# Altium footprint library MX1.25.PcbLib: 3 footprints
Each footprint in its own frame and in the unit in brackets; x right, y up, seen from the top. Pads: shape width x height; smd on the part's side, far side on the other; paste and mask are expansions set on the pad; w line width, h text height; cw(c..) or ccw(c..) is an arc to the next point about the centre after c.
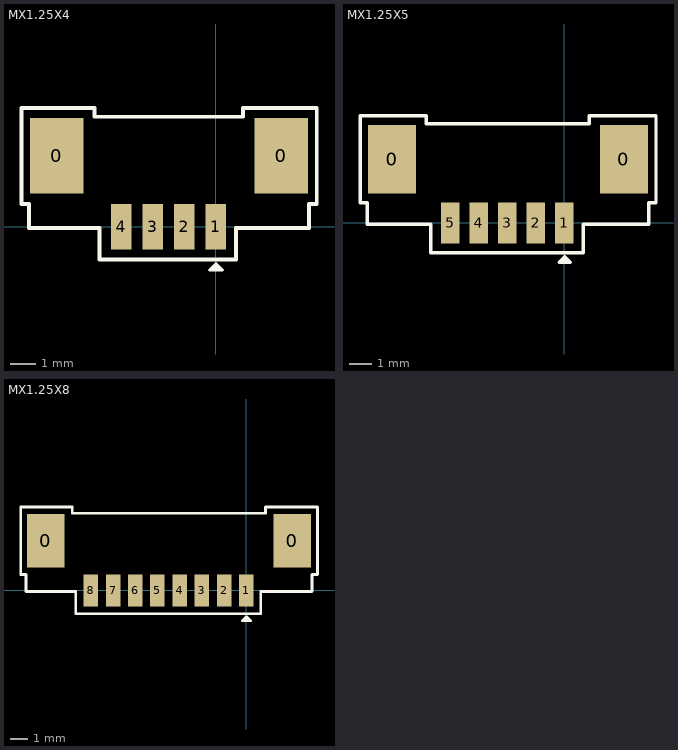
[diagram p0: the footprints below, top view; thin cyan lines are the x and y axes]

## MX1.25X4 [mil]
pads (6):
  rect 83x118 smd: 0(-248.03,110.24) 0(102.36,110.24)
  rect 32x71 smd: 1(0,0) 2(-49.21,0) 3(-98.43,0) 4(-147.64,0)
Top Overlay:
  lines w5: 4.5,-63.9 -1.5,-63.9 ; -1.5,-63.9 0.5,-61.9 ; -1.5,-63.9 -1.5,-65.9 0.5,-65.9 2.5,-63.9 0.5,-61.9 ; -1.5,-63.9 -1.5,-61.9 0.5,-61.9 ; 0.5,-61.9 4.5,-65.9 -5.5,-65.9 0.5,-59.9 8.5,-67.9 10.5,-67.9 ; 10.5,-67.9 -9.5,-67.9 0.5,-57.9 10.5,-67.9
  lines w6: -303.15,35.2 -291.34,35.2 -291.34,-2.2 -181.1,-2.2 -181.1,-51.5 32,-51.5 32,-2.2 145.67,-2.2 145.67,35.2 157.9,35.2 157.9,185.2 42.9,185.2 42.9,171.4 -188.98,171.4 -188.98,185.2 -303.15,185.2 -303.15,35.2

## MX1.25X5 [mil]
pads (7):
  rect 83x118 smd: 0(-297.24,110.24) 0(102.36,110.24)
  rect 32x71 smd: 1(0,0) 2(-49.21,0) 3(-98.43,0) 4(-147.64,0) 5(-196.85,0)
Top Overlay:
  lines w5: 4.5,-63.9 -1.5,-63.9 ; -1.5,-63.9 -1.5,-61.9 0.5,-61.9 ; -1.5,-63.9 -1.5,-65.9 0.5,-65.9 2.5,-63.9 0.5,-61.9 ; -1.5,-63.9 0.5,-61.9 ; 0.5,-61.9 4.5,-65.9 -5.5,-65.9 0.5,-59.9 8.5,-67.9 10.5,-67.9 ; 10.5,-67.9 0.5,-57.9 -9.5,-67.9 10.5,-67.9
  lines w6: -352.36,35.2 -340.55,35.2 -340.55,-2.2 -230.31,-2.2 -230.31,-51.5 32,-51.5 32,-2.2 145.67,-2.2 145.67,35.2 157.9,35.2 157.9,185.2 42.9,185.2 42.9,171.4 -238.19,171.4 -238.19,185.2 -352.36,185.2 -352.36,35.2

## MX1.25X8 [mil]
pads (10):
  rect 83x118 smd: 0(-444.88,110.24) 0(102.36,110.24)
  rect 32x71 smd: 1(0,0) 2(-49.21,0) 3(-98.43,0) 4(-147.64,0) 5(-196.85,0) 6(-246.06,0) 7(-295.28,0) 8(-344.49,0)
Top Overlay:
  lines w5: 4.5,-63.9 -1.5,-63.9 ; -1.5,-63.9 0.5,-61.9 ; -1.5,-63.9 -1.5,-65.9 0.5,-65.9 2.5,-63.9 0.5,-61.9 ; -1.5,-63.9 -1.5,-61.9 0.5,-61.9 ; 0.5,-61.9 4.5,-65.9 -5.5,-65.9 0.5,-59.9 8.5,-67.9 10.5,-67.9 ; 10.5,-67.9 -9.5,-67.9 0.5,-57.9 10.5,-67.9
  lines w6: -500,35.2 -500,185.2 -385.83,185.2 -385.83,171.4 42.9,171.4 42.9,185.2 157.9,185.2 157.9,35.2 145.67,35.2 145.67,-2.2 32,-2.2 32,-51.5 -377.95,-51.5 -377.95,-2.2 -488.19,-2.2 -488.19,35.2 -500,35.2